# Altium schematic symbol library IS31FL3236-TQLS2.SchLib: 1 symbol
Pins are listed as number, name and electrical type; pins without a type are passive.

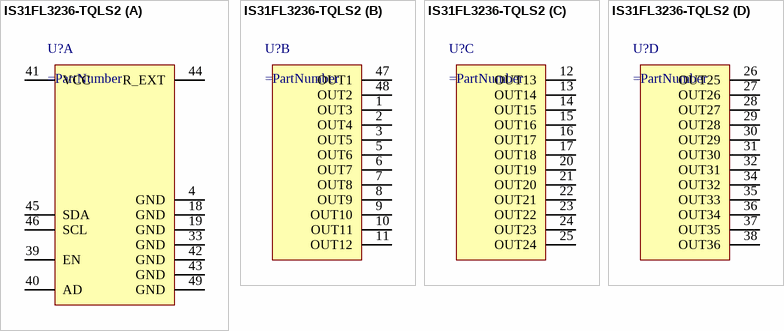
[diagram p0: symbol IS31FL3236-TQLS2]

## IS31FL3236-TQLS2
designator U?
part A pins: 4 GND, 18 GND, 19 GND, 33 GND, 39 EN, 40 AD, 41 VCC, 42 GND, 43 GND, 44 R_EXT, 45 SDA, 46 SCL, 49 GND
part B pins: 1 OUT3, 2 OUT4, 3 OUT5, 5 OUT6, 6 OUT7, 7 OUT8, 8 OUT9, 9 OUT10, 10 OUT11, 11 OUT12, 47 OUT1, 48 OUT2
part C pins: 12 OUT13, 13 OUT14, 14 OUT15, 15 OUT16, 16 OUT17, 17 OUT18, 20 OUT19, 21 OUT20, 22 OUT21, 23 OUT22, 24 OUT23, 25 OUT24
part D pins: 26 OUT25, 27 OUT26, 28 OUT27, 29 OUT28, 30 OUT29, 31 OUT30, 32 OUT31, 34 OUT32, 35 OUT33, 36 OUT34, 37 OUT35, 38 OUT36